# Altium footprint library model.PcbLib: 3 footprints
Each footprint in its own frame and in the unit in brackets; x right, y up, seen from the top. Pads: shape width x height; smd on the part's side, far side on the other; paste and mask are expansions set on the pad; w line width, h text height; cw(c..) or ccw(c..) is an arc to the next point about the centre after c.
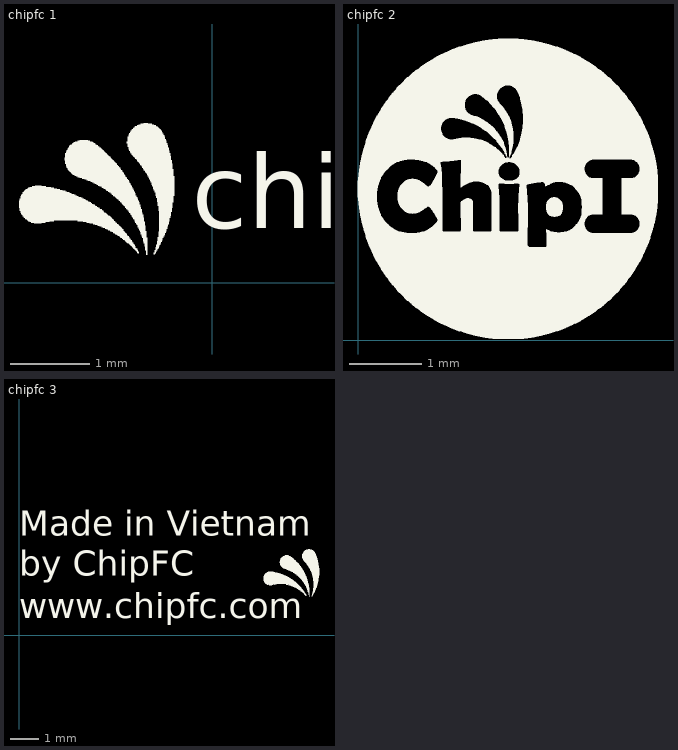
[diagram p0: the footprints below, top view; thin cyan lines are the x and y axes]

## chipfc 1 [mm]
height 0.8
Top Overlay:
  drawing of 3 lines, arcs and shapes, not listed
  text "chipfc.com" at -0.254,0.381 h1.6

## chipfc 2 [mm]
height 0.8
Top Overlay:
  drawing of 2 lines, arcs and shapes, not listed

## chipfc 3 [mm]
height 0.8
Top Overlay:
  drawing of 3 lines, arcs and shapes, not listed
  text "Made in Vietnam" at 0,3.2 h1.52
  text "by ChipFC" at 0,1.8 h1.52
  text "www.chipfc.com" at 0,0.3 h1.52